# Altium footprint library AMPHENOL_68604-406HLF.PcbLib: 1 footprints
Each footprint in its own frame and in the unit in brackets; x right, y up, seen from the top. Pads: shape width x height; smd on the part's side, far side on the other; paste and mask are expansions set on the pad; w line width, h text height; cw(c..) or ccw(c..) is an arc to the next point about the centre after c.
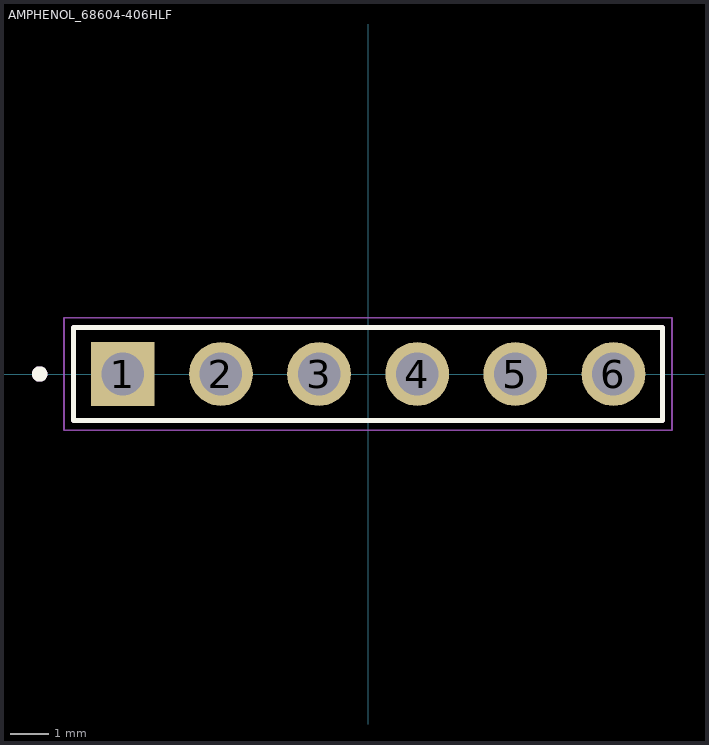
[diagram p0: the footprint, top view; thin cyan lines are the x and y axes]

## AMPHENOL_68604-406HLF [mm]
height 12.198
pads (6):
  rect 1.65x1.65 / inner round 1.65 / far side rect 1.65x1.65 hole 1.1: 1(-6.35,0)
  round 1.65 hole 1.1: 2(-3.81,0) 3(-1.27,0) 4(1.27,0) 5(3.81,0) 6(6.35,0)
Top Overlay:
  circle w0.2: c-8.5,0 r0.1
  lines w0.127: -7.62,-1.205 7.62,-1.205 7.62,1.205 -7.62,1.205 -7.62,-1.205
Mechanical 13:
  circle w0.2: c-8.5,0 r0.1
  lines w0.127: -7.62,-1.205 7.62,-1.205 7.62,1.205 -7.62,1.205 -7.62,-1.205
Mechanical 15:
  lines w0.05: -7.87,-1.455 -7.87,1.455 7.87,1.455 7.87,-1.455 -7.87,-1.455
3D body "step_temp.STEP": height 12.19, standoff -3.05, extent -7.62,-1.205 7.62,1.205